# EAGLE library part WE-RJ45_10G_7499811120 (library WE-RJ45_10G)
WE-RJ45 10G Transformer Characteristics RJ45 Connector with integrated transformer / common mode choke Power over Ethernet up to 50 Watt and speeds up to 10 Gbit/s Available in SMD, THT and THT with USB Compliant with standards: IEEE 802.3u, IEEE 802.3ab, IEEE 802.3af, IEEE 802.3at, IEEE 802.3an and upcoming IEE 802.3bt Applications Suitable for industrial temperatures from –40 °C up to +85 °C Compatible to Industrial Ethernet systems like EtherCAT or Profinet Compliant with most IC’s for Ethernet applications such as Microchip, Texas Instruments, Broadcom, Linear Technology Hubs, Routers, Switches, IP cameras, IoT applications <https://www.we-online.com/catalog/media/o122818v209%20Family_WE-RJ45LAN_10G_7499611420_a.jpg> Details see: https://www.we-online.com/catalog/en/WE-LAN-RJ45-10G Create By Ella Wu 2020-10-26 2020 (C) Wurth Elektronik
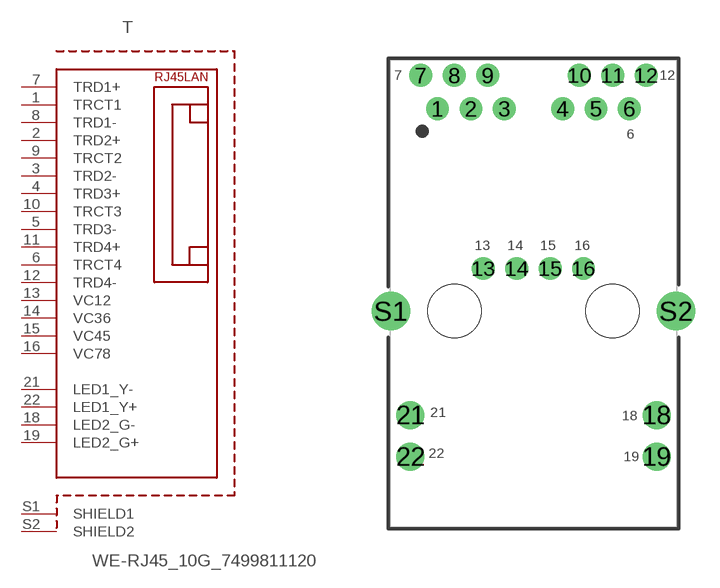
[diagram p7: symbol with the pads of 7499811120; footprint 7499811120]

Designator prefix T

## WE-RJ45_10G_7499811120 (DATA-RATE: 10G Base-T; DATASHEET-URL: https://www.we-online.com/catalog/datasheet/7499811120.pdf; L: 160uH; LED: yellow-green; MOUNT: THT; PART-NUMBER: 7499811120; POE: PoE (up to 1000 mA); PORTS: 1; USB: No; VALUE: 7499811120)  [7499811120]
1  TRCT1
2  TRD2+
3  TRD2-
4  TRD3+
5  TRD3-
6  TRCT4
7  TRD1+
8  TRD1-
9  TRCT2
10  TRCT3
11  TRD4+
12  TRD4-
13  VC12
14  VC36
15  VC45
16  VC78
18  LED2_G-
19  LED2_G+
21  LED1_Y-
22  LED1_Y+
S1  SHIELD1  pwr
S2  SHIELD2  pwr

## Footprint 7499811120 (pad centres in mm)
WE-RJ45 10G Transformer 10G Base-T MAX HEIGHT=11.92mm
drill 0.89: 1 -5.86,12.37; 2 -3.82,12.37; 3 -1.78,12.37; 4 1.78,12.37; 5 3.82,12.37; 6 5.86,12.37; 7 -6.88,14.4; 8 -4.84,14.4; 9 -2.8,14.4; 10 2.8,14.4; 11 4.84,14.4; 12 6.88,14.4; 13 -3.065,2.6; 14 -1.025,2.6; 15 1.015,2.6; 16 3.055,2.6
drill 1.14: 18 7.52,-6.35; 19 7.52,-8.89; 21 -7.52,-6.35; 22 -7.52,-8.89
drill 1.57: S1 -8.715,0; S2 8.715,0
hole 3.25 at -4.825,0
hole 3.25 at 4.825,0